# Altium footprint library pcblib_by_wjy.PcbLib: 111 footprints (part 4 of 7)
Each footprint in its own frame and in the unit in brackets; x right, y up, seen from the top. Pads: shape width x height; smd on the part's side, far side on the other; paste and mask are expansions set on the pad; w line width, h text height; cw(c..) or ccw(c..) is an arc to the next point about the centre after c.
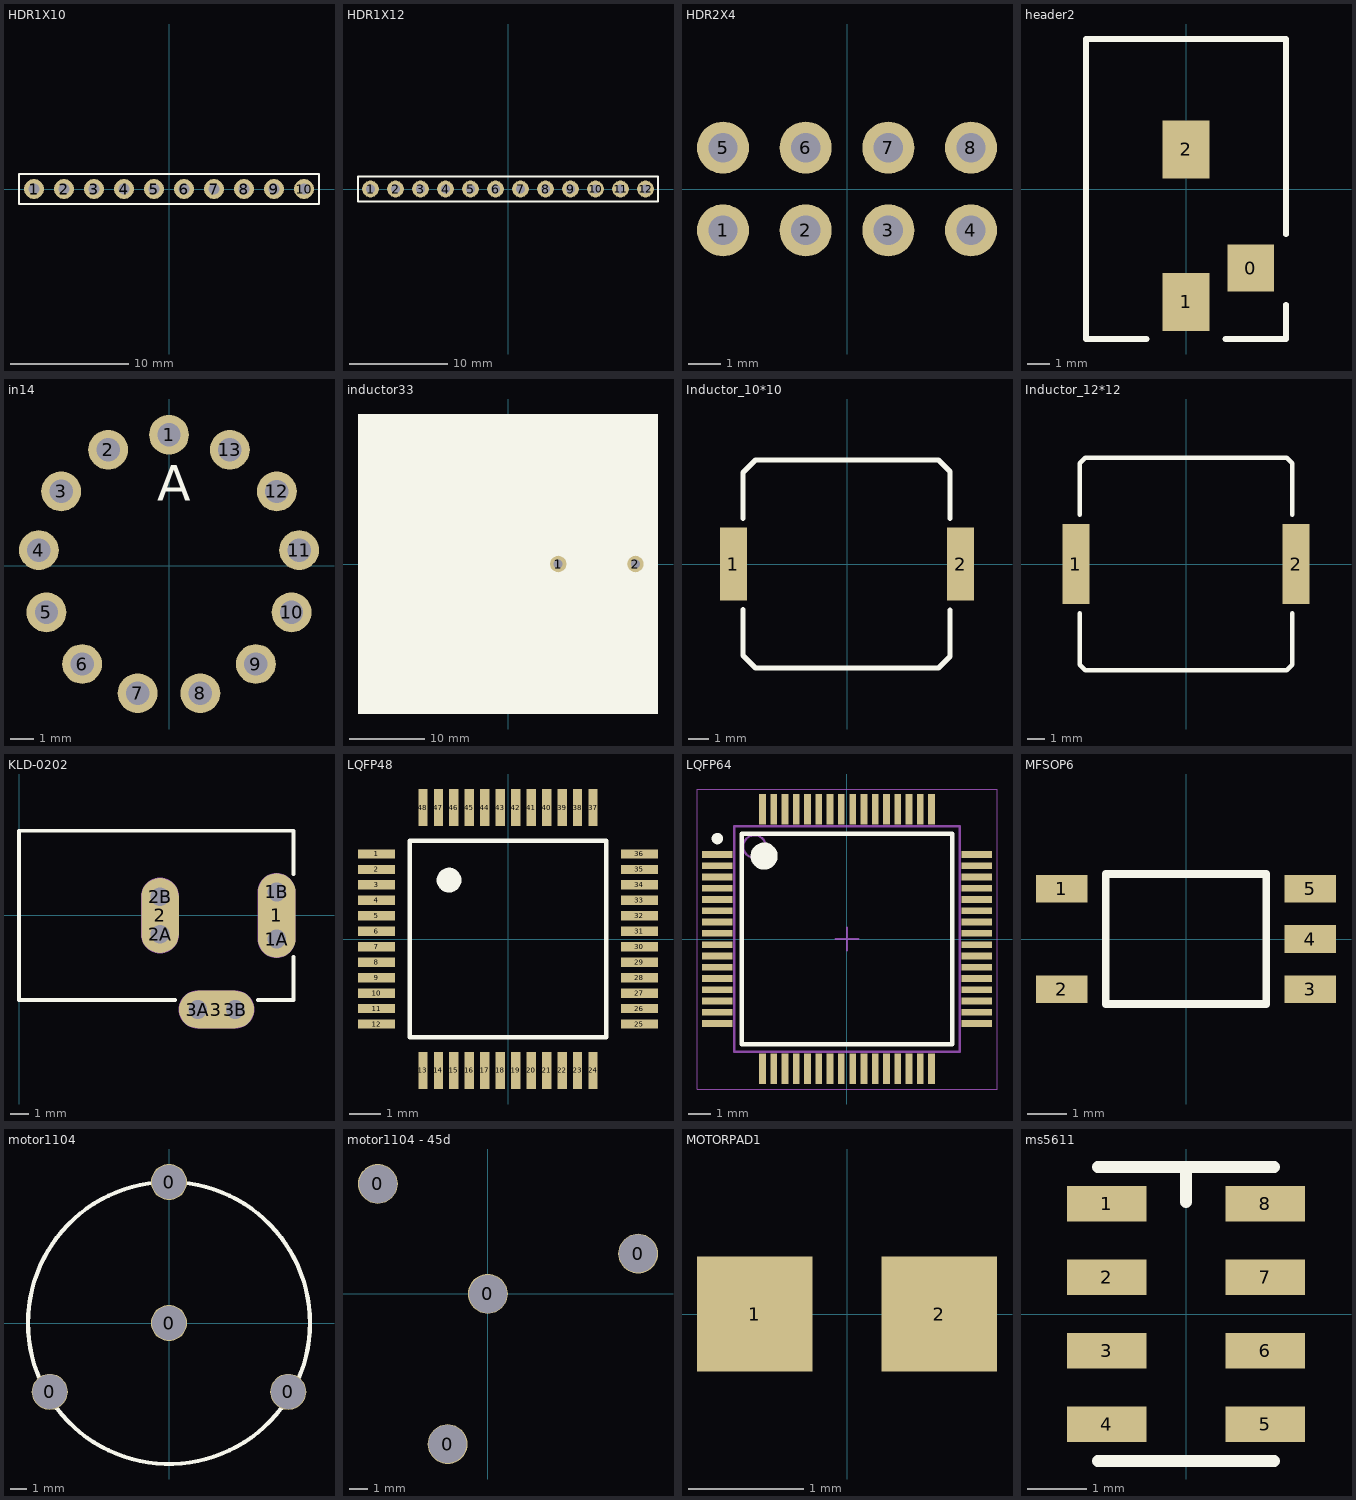
[diagram p3: the footprints below, top view; thin cyan lines are the x and y axes]

## HDR1X10 [mm] "Connector; Header; 10 Position"
pads (10):
  round 1.7 hole 0.9: 1(-11.43,0) 2(-8.89,0) 3(-6.35,0) 4(-3.81,0) 5(-1.27,0) 6(1.27,0) 7(3.81,0) 8(6.35,0) 9(8.89,0) 10(11.43,0)
Top Overlay:
  lines w0.2: -12.7,-1.27 -12.7,1.27 -10.795,1.27 12.7,1.27 12.7,-1.27 -12.7,-1.27

## HDR1X12 [mm] "Connector; Header; 12 Position"
pads (12):
  round 1.7 hole 0.9: 1(-13.97,0) 2(-11.43,0) 3(-8.89,0) 4(-6.35,0) 5(-3.81,0) 6(-1.27,0) 7(1.27,0) 8(3.81,0) 9(6.35,0) 10(8.89,0) 11(11.43,0) 12(13.97,0)
Top Overlay:
  lines w0.2: -15.24,-1.27 -15.24,1.27 -13.335,1.27 15.24,1.27 15.24,-1.27 -15.24,-1.27

## HDR2X4 [mm] "Connector; Header; 4x2 Position"
pads (8):
  round 1.6 hole 0.9 paste+0: 1(-3.81,-1.27) 2(-1.27,-1.27) 3(1.27,-1.27) 4(3.81,-1.27) 5(-3.81,1.27) 6(-1.27,1.27) 7(1.27,1.27) 8(3.81,1.27)

## header2 [mm]
pads (3):
  rect 2.1x2.1 smd: 0(2.921,-3.556)
  rect 2.1x2.6 smd: 1(0,-5.08) 2(0,1.778)
Top Overlay:
  lines w0.254: -1.778,-6.75 -4.5,-6.75 -4.5,6.75 4.445,6.75 ; 1.778,-6.75 4.5,-6.75 4.5,-5.207 ; 4.5,-2.032 4.5,6.75

## in14 [mm]
pads (13):
  round 1.7 hole 1: 1(0,5.6) 2(-2.602,4.959) 3(-4.609,3.181) 4(-5.559,0.675) 5(-5.236,-1.986) 6(-3.714,-4.192) 7(-1.34,-5.437) 8(1.34,-5.437) 9(3.713,-4.192) 10(5.236,-1.986) 11(5.559,0.675) 12(4.609,3.181) 13(2.602,4.959)
Top Overlay:
  text "A" at -0.508,2.794 h1.52

## inductor33 [mm]
pads (2):
  round 2.2 hole 1.2: 1(6.7,0) 2(17,0)
Top Overlay:
  rectangle: -20,-20 20,20

## Inductor_10*10 [mm]
pads (2):
  rect 1.3x3.5 smd: 1(-5.461,0) 2(5.461,0)
Top Overlay:
  lines w0.254: -5,-2.199 -5,-4.398 -4.398,-5 4.398,-5 4.953,-4.445 ; -5,2.199 -5,4.398 -4.398,5 4.398,5 4.953,4.445 4.953,2.199 ; 4.953,-4.398 4.953,-2.222

## Inductor_12*12 [mil]
pads (2):
  rect 60x177.17 smd: 1(-245,0) 2(245,0)
Top Overlay:
  lines w10: -236.22,-110 -236.22,-223.78 -223.78,-236.22 195,-236.22 223.78,-236.22 236.22,-223.78 236.22,-110 ; -236.22,110 -236.22,223.78 -223.78,236.22 223.78,236.22 236.22,223.78 236.22,110

## KLD-0202 [mm] "DC Power Jack, 2.5mm, KLD Series, PCB Mount"
pads (9):
  oval 2x4.5 all layers, no hole: 1(13.7,0)
  round 1.5 hole 1: 1A(13.7,-1.25) 1B(13.7,1.25) 2A(7.5,-1) 2B(7.5,1) 3A(9.5,-5) 3B(11.5,-5)
  oval 2x4 all layers, no hole: 2(7.5,0)
  oval 4x2 all layers, no hole: 3(10.5,-5)
Top Overlay:
  lines w0.2: 8.3,-4.5 0,-4.5 0,4.5 14.6,4.5 14.6,2.2 ; 12.7,-4.5 14.6,-4.5 14.6,-2.2
Mechanical 1:
  lines w1: 7.5,-1 7.5,1 ; 9.5,-5 11.5,-5 ; 13.7,-1.25 13.7,1.25
Mechanical 2:
  lines w2.016: 7.5,-1 7.5,1 ; 9.5,-5 11.5,-5 ; 13.7,-1.25 13.7,1.25

## LQFP48 [mm]
height 1.5
pads (48):
  rect 1.2x0.3 smd: 1(-4.25,2.75) 2(-4.25,2.25) 3(-4.25,1.75) 4(-4.25,1.25) 5(-4.25,0.75) 6(-4.25,0.25) 7(-4.25,-0.25) 8(-4.25,-0.75) 9(-4.25,-1.25) 10(-4.25,-1.75) 11(-4.25,-2.25) 12(-4.25,-2.75) 25(4.25,-2.75) 26(4.25,-2.25) 27(4.25,-1.75) 28(4.25,-1.25) 29(4.25,-0.75) 30(4.25,-0.25) 31(4.25,0.25) 32(4.25,0.75) 33(4.25,1.25) 34(4.25,1.75) 35(4.25,2.25) 36(4.25,2.75)
  rect 0.3x1.2 smd: 13(-2.75,-4.25) 14(-2.25,-4.25) 15(-1.75,-4.25) 16(-1.25,-4.25) 17(-0.75,-4.25) 18(-0.25,-4.25) 19(0.25,-4.25) 20(0.75,-4.25) 21(1.25,-4.25) 22(1.75,-4.25) 23(2.25,-4.25) 24(2.75,-4.25) 37(2.75,4.25) 38(2.25,4.25) 39(1.75,4.25) 40(1.25,4.25) 41(0.75,4.25) 42(0.25,4.25) 43(-0.25,4.25) 44(-0.75,4.25) 45(-1.25,4.25) 46(-1.75,4.25) 47(-2.25,4.25) 48(-2.75,4.25)
Top Overlay:
  circle w0.4: c-1.905,1.905 r0.2
  lines w0.15: -3.175,-3.175 -3.175,3.175 3.175,3.175 3.175,-3.175 -3.175,-3.175

## LQFP64 [mm] "LQFP, 64-Leads, Body 10.00x10.00mm, Pitch 0.50mm, IPC Medium Density"
height 1.6
pads (64):
  rect 1.35x0.3 smd: 1(-5.75,3.75) 2(-5.75,3.25) 3(-5.75,2.75) 4(-5.75,2.25) 5(-5.75,1.75) 6(-5.75,1.25) 7(-5.75,0.75) 8(-5.75,0.25) 9(-5.75,-0.25) 10(-5.75,-0.75) 11(-5.75,-1.25) 12(-5.75,-1.75) 13(-5.75,-2.25) 14(-5.75,-2.75) 15(-5.75,-3.25) 16(-5.75,-3.75) 33(5.75,-3.75) 34(5.75,-3.25) 35(5.75,-2.75) 36(5.75,-2.25) 37(5.75,-1.75) 38(5.75,-1.25) 39(5.75,-0.75) 40(5.75,-0.25) 41(5.75,0.25) 42(5.75,0.75) 43(5.75,1.25) 44(5.75,1.75) 45(5.75,2.25) 46(5.75,2.75) 47(5.75,3.25) 48(5.75,3.75)
  rect 0.3x1.35 smd: 17(-3.75,-5.75) 18(-3.25,-5.75) 19(-2.75,-5.75) 20(-2.25,-5.75) 21(-1.75,-5.75) 22(-1.25,-5.75) 23(-0.75,-5.75) 24(-0.25,-5.75) 25(0.25,-5.75) 26(0.75,-5.75) 27(1.25,-5.75) 28(1.75,-5.75) 29(2.25,-5.75) 30(2.75,-5.75) 31(3.25,-5.75) 32(3.75,-5.75) 49(3.75,5.75) 50(3.25,5.75) 51(2.75,5.75) 52(2.25,5.75) 53(1.75,5.75) 54(1.25,5.75) 55(0.75,5.75) 56(0.25,5.75) 57(-0.25,5.75) 58(-0.75,5.75) 59(-1.25,5.75) 60(-1.75,5.75) 61(-2.25,5.75) 62(-2.75,5.75) 63(-3.25,5.75) 64(-3.75,5.75)
Top Overlay:
  circle w0.6: c-3.675,3.675 r0.3
  circle w0.25: c-5.75,4.45 r0.125
  lines w0.2: -4.675,-4.675 4.675,-4.675 4.675,4.675 -4.675,4.675 -4.675,-4.675
Mechanical 13:
  circle w0.1: c-4.1,4.1 r0.5
  lines w0.1: -5,-5 5,-5 5,5 -5,5 -5,-5
Mechanical 15:
  lines w0.05: -6.65,-6.65 6.65,-6.65 6.65,6.65 -6.65,6.65 -6.65,-6.65
  lines w0.1: -0.5,0 0.5,0 ; 0,-0.5 0,0.5
3D body: height 1.6, standoff 0.12, extent -5,-5 5,5

## MFSOP6 [mm]
pads (5):
  rect 1.3x0.7 smd: 1(-3.15,1.27) 2(-3.15,-1.27) 3(3.15,-1.27) 4(3.15,0) 5(3.15,1.27)
Top Overlay:
  lines w0.2: -2.032,-1.651 -2.032,1.651 2.032,1.651 2.032,-1.651 -2.032,-1.651

## motor1104 [mm]
pads (4):
  round 2.2 hole 2.1: 0(-7.275,-4.2) 0(0,0) 0(0,8.6) 0(7.275,-4.2)
Top Overlay:
  circle w0.254: c0,0 r8.6

## motor1104 - 45d [mm]
pads (4):
  round 2.2 hole 2.1: 0(-6.081,6.081) 0(-2.226,-8.307) 0(0,0) 0(8.307,2.226)

## MOTORPAD1 [mm]
pads (2):
  rect 1x1 smd: 1(-0.8,0) 2(0.8,0)

## ms5611 [mm]
pads (8):
  rect 1.35x0.6 smd: 1(-1.35,1.875) 2(-1.35,0.625) 3(-1.35,-0.625) 4(-1.35,-1.875) 5(1.35,-1.875) 6(1.35,-0.625) 7(1.35,0.625) 8(1.35,1.875)
Top Overlay:
  lines w0.2: -1.5,-2.5 1.5,-2.5 ; -1.5,2.5 1.5,2.5 ; 0,1.905 0,2.5